# EAGLE library part KEYPAD4X3 (library mbed-switches)
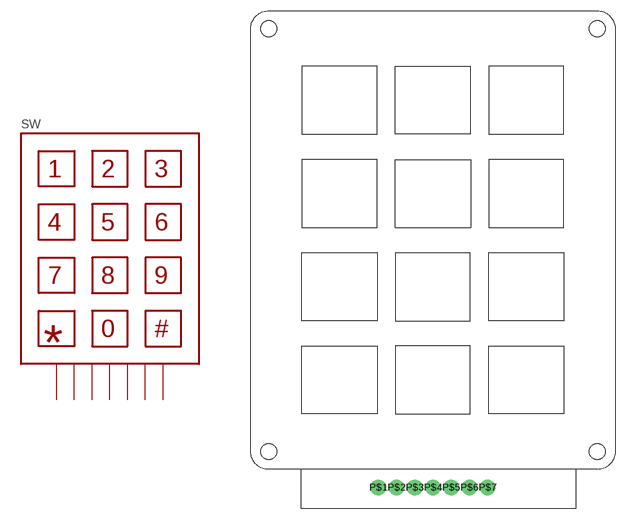
[diagram p2: symbol with the pads of KEYPAD4X3; footprint KEYPAD4X3]

Designator prefix SW

## KEYPAD4X3  [KEYPAD4X3]
P$1  P$1
P$2  P$2
P$3  P$3
P$4  P$4
P$5  P$5
P$6  P$6
P$7  P$7

## Footprint KEYPAD4X3 (pad centres in mm)
drill 1.1 pad 2.184 round: P$1 17.78,-2.54; P$2 20.32,-2.54; P$3 22.86,-2.54; P$4 25.4,-2.54; P$5 27.94,-2.54; P$6 30.48,-2.54; P$7 33.02,-2.54
hole 2.2 at 2.489,2.489
hole 2.2 at 48.311,2.489
hole 2.2 at 2.489,61.519
hole 2.2 at 48.311,61.519